# Altium footprint library ProtoWatch_PcbLib.PcbLib: 6 footprints
Each footprint in its own frame and in the unit in brackets; x right, y up, seen from the top. Pads: shape width x height; smd on the part's side, far side on the other; paste and mask are expansions set on the pad; w line width, h text height; cw(c..) or ccw(c..) is an arc to the next point about the centre after c.
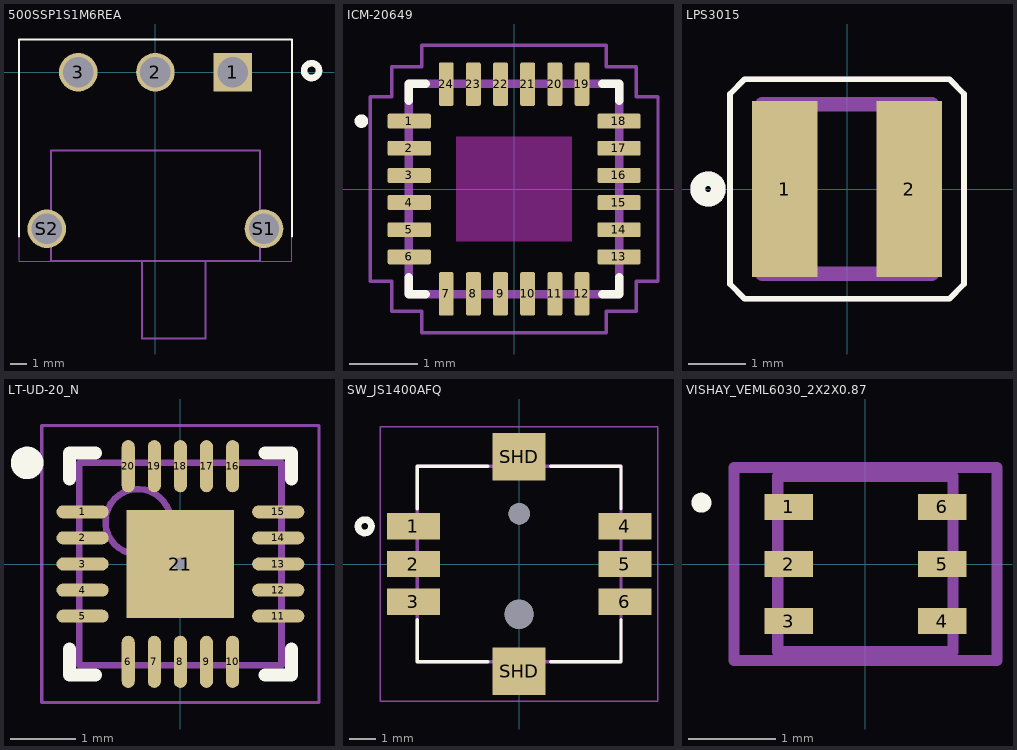
[diagram p0: the footprints below, top view; thin cyan lines are the x and y axes]

## 500SSP1S1M6REA [mm] "Slide Switch SPDT Through Hole, R/A"
height 6.6
pads (5):
  rect 2.35x2.35 hole 1.85: 1(4.699,0)
  round 2.35 hole 1.85: 2(0,0) 3(-4.699,0) S1(6.604,-9.525) S2(-6.604,-9.525)
Top Overlay:
  circle w0.4: c9.5,0.1 r0.451
  lines w0.127: -8.3,-10 -8.3,2 8.3,2 8.3,-10
Mechanical 13:
  lines w0.127: -0.81,-11.47 -0.81,-16.19 3.05,-16.19 3.05,-11.47 ; -6.35,-11.47 6.35,-11.47 6.35,-4.76 -6.35,-4.76 -6.35,-11.47
Mechanical 15:
  lines w0.05: -8.3,-11.5 -8.3,2 8.3,2 8.3,-11.5 3.1,-11.5 3.1,-16.2 -0.8,-16.2 -0.8,-11.5 -8.3,-11.5
  text "'.Designator'1" at -3.8,-5.274 h1.52
3D body "500SSPxS1M6xEA.stp": height 6.61, standoff -3.17, extent -6.785,-15.57 6.785,0.62

## ICM-20649 [mm] "QFN40P300X300X95-24N"
height 0.95
pads (24):
  rrect25% 0.64x0.22 smd: 1(-1.545,1) 2(-1.545,0.6) 3(-1.545,0.2) 4(-1.545,-0.2) 5(-1.545,-0.6) 6(-1.545,-1) 13(1.545,-1) 14(1.545,-0.6) 15(1.545,-0.2) 16(1.545,0.2) 17(1.545,0.6) 18(1.545,1)
  rrect25% 0.22x0.64 smd: 7(-1,-1.545) 8(-0.6,-1.545) 9(-0.2,-1.545) 10(0.2,-1.545) 11(0.6,-1.545) 12(1,-1.545) 19(1,1.545) 20(0.6,1.545) 21(0.2,1.545) 22(-0.2,1.545) 23(-0.6,1.545) 24(-1,1.545)
Top Overlay:
  circle w0.1: c-2.25,1 r0.05
  lines w0.127: -1.55,-1.3 -1.55,-1.55 -1.3,-1.55 ; -1.55,1.3 -1.55,1.55 -1.3,1.55 ; 1.3,-1.55 1.55,-1.55 1.55,-1.3 ; 1.3,1.55 1.55,1.55 1.55,1.3
Keep-Out Layer:
  region: 0.85,-0.77 -0.85,-0.77 -0.85,0.77 0.85,0.77
  region: 0.85,-0.77 -0.85,-0.77 -0.85,0.77 0.85,0.77
Mechanical 13:
  circle w0.1: c-1.75,1 r0.05
  lines w0.127: -1.55,-1.55 1.55,-1.55 1.55,1.55 -1.55,1.55 -1.55,-1.55
Mechanical 15:
  lines w0.05: -2.12,-1.36 -2.12,1.36 -1.8,1.36 -1.8,1.8 -1.36,1.8 -1.36,2.12 1.36,2.12 1.36,1.8 1.8,1.8 1.8,1.36 2.12,1.36 2.12,-1.36 1.8,-1.36 1.8,-1.8 1.36,-1.8 1.36,-2.12 -1.36,-2.12 -1.36,-1.8 -1.8,-1.8 -1.8,-1.36 -2.12,-1.36
  text "'.Designator'1" at -0.889,-0.889 h1.52
3D body "QFN40P300X300X95_HS-25N.step": height 0.95, standoff 0, extent -1.6,-1.6 1.6,1.6

## LPS3015 [mm]
pads (2):
  rect 1.14x3.05 smd: 1(-1.08,0) 2(1.08,0)
Top Overlay:
  circle w0.254: c-2.413,0 r0.18
  lines w0.1: -2.032,-1.651 -2.032,1.651 -1.778,1.905 1.778,1.905 2.032,1.651 2.032,-1.651 1.778,-1.905 -1.778,-1.905 -2.032,-1.651
Mechanical 13:
  lines w0.254: -1.475,-1.475 -1.475,1.475 1.475,1.475 1.475,-1.475 -1.475,-1.475
Mechanical 15:
  circle w0.254: c-2.413,0 r0.18
  lines w0.1: -2.032,-1.651 -2.032,1.651 -1.778,1.905 1.778,1.905 2.032,1.651 2.032,-1.651 1.778,-1.905 -1.778,-1.905 -2.032,-1.651
  text "'.Designator'1" at -1.28,-0.706 h1.52
3D body "LPS3015.step": height 1.4, standoff 0, extent -1.475,-1.475 1.475,1.475

## LT-UD-20_N [mm] "QFN, 20-Leads, Body 3.1x3.1mm, Pitch 0.4mm, Thermal Pad 1.65x1.65mm, IPC Medium Density"
height 0.8
pads (21):
  oval 0.8x0.2 smd: 1(-1.5,0.8) 2(-1.5,0.4) 3(-1.5,0) 4(-1.5,-0.4) 5(-1.5,-0.8) 11(1.5,-0.8) 12(1.5,-0.4) 13(1.5,0) 14(1.5,0.4) 15(1.5,0.8)
  oval 0.2x0.8 smd: 6(-0.8,-1.5) 7(-0.4,-1.5) 8(0,-1.5) 9(0.4,-1.5) 10(0.8,-1.5) 16(0.8,1.5) 17(0.4,1.5) 18(0,1.5) 19(-0.4,1.5) 20(-0.8,1.5)
  rect 1.65x1.65 smd: 21(0,0)
via 0,0 diameter 0.5 hole 0.2
Top Overlay:
  circle w0.25: c-2.35,1.55 r0.125
  lines w0.2: -1.7,-1.3 -1.7,-1.7 -1.3,-1.7 ; -1.7,1.3 -1.7,1.7 -1.3,1.7 ; 1.3,-1.7 1.7,-1.7 1.7,-1.3 ; 1.3,1.7 1.7,1.7 1.7,1.3
Mechanical 13:
  circle w0.1: c-0.65,0.65 r0.5
  lines w0.1: -1.55,-1.55 -1.55,1.55 1.55,1.55 1.55,-1.55 -1.55,-1.55
Mechanical 15:
  lines w0.05: -2.125,-2.125 -2.125,2.125 2.125,2.125 2.125,-2.125 -2.125,-2.125
  text "'.Designator'1" at -1.27,-0.762 h1.52
3D body: height 0.8, standoff 0, extent -1.55,-1.55 1.55,1.55

## SW_JS1400AFQ [mm] "SWITCH NAVIGATION 50MA 12V"
height 4.5
pads (10):
  rect 2x1 smd: 1(-4,1.425) 2(-4,0) 3(-4,-1.425) 4(4,1.425) 5(4,0) 6(4,-1.425)
  rect 2x1.8 smd: SHD(0,-4.05) SHD(0,4.05)
  round 1.1 hole 1.1 unplated: ""(0,-1.9)
  round 0.8 hole 0.8 unplated: ""(0,1.9)
Top Overlay:
  circle w0.254: c-5.842,1.425 r0.254
  lines w0.127: -3.85,-2.11 -3.85,-3.7 -1.19,-3.7 ; -3.85,2.09 -3.85,3.7 -1.19,3.7 ; 1.19,-3.7 3.85,-3.7 3.85,-2.1 ; 1.2,3.7 3.85,3.7 3.85,2.08
Mechanical 13:
  lines w0.127: -3.85,-3.7 -3.85,3.7 3.85,3.7 3.85,-3.7 -3.85,-3.7
Mechanical 15:
  lines w0.05: -5.25,-5.2 5.25,-5.2 5.25,5.2 -5.25,5.2 -5.25,-5.2
  text "'.Designator'1" at -2.286,-0.762 h1.52
3D body "JS1400AFQ.stp": height 4.49, standoff -0.51, extent -4.5,-3.9 4.5,3.9

## VISHAY_VEML6030_2X2X0.87 [mm]
pads (6):
  rect 0.55x0.3 smd: 1(-0.875,0.65) 2(-0.875,0) 3(-0.875,-0.65) 4(0.875,-0.65) 5(0.875,0) 6(0.875,0.65)
Top Overlay:
  circle w0.127: c-1.87,0.699 r0.05
Mechanical 13:
  lines w0.127: -1,-1 1,-1 1,1 -1,1 -1,-1
Mechanical 15:
  lines w0.127: -1.5,-1.1 1.5,-1.1 1.5,1.1 -1.5,1.1 -1.5,-1.1
  text "'.Designator'1" at -1.27,-0.762 h1.52
3D body "VEML6030.stp": height 0.83, standoff -0.04, extent -1,-1 1,1